# EAGLE library part TERMINAL-BLOCK-3.5MM-9-PIN (library Rembrandt Electronics - Terminal Block 3-5mm v1-0)
Terminal Block 3.5mm Pitch: 3,5 mm Number of pins: 9 Created by Rembrandt Electronics www.rembrandtelectronics.com
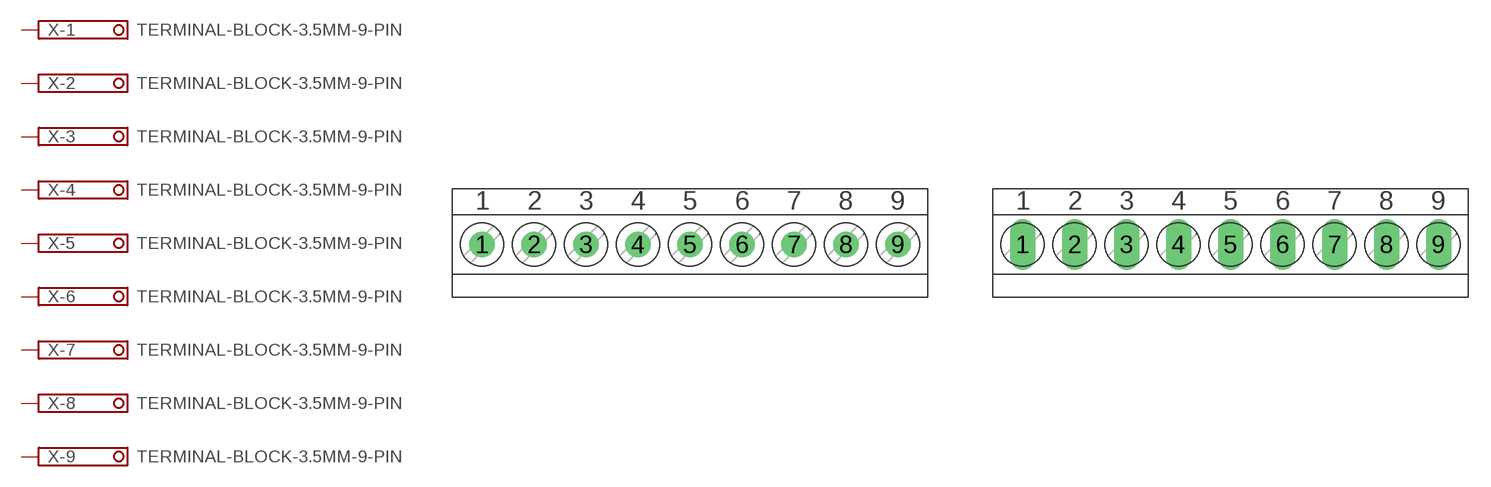
[diagram p3: symbol with the pads of TERMINAL-BLOCK-9-PIN-3.5MM-ROUND-PAD; footprints TERMINAL-BLOCK-9-PIN-3.5MM-ROUND-PAD, TERMINAL-BLOCK-9-PIN-3.5MM-LONG-PAD]

Designator prefix X; gates -1=TERMINAL-BLOCK-PIN-3.5MM -2=TERMINAL-BLOCK-PIN-3.5MM -3=TERMINAL-BLOCK-PIN-3.5MM -4=TERMINAL-BLOCK-PIN-3.5MM -5=TERMINAL-BLOCK-PIN-3.5MM -6=TERMINAL-BLOCK-PIN-3.5MM -7=TERMINAL-BLOCK-PIN-3.5MM -8=TERMINAL-BLOCK-PIN-3.5MM -9=TERMINAL-BLOCK-PIN-3.5MM

## TERMINAL-BLOCK-3.5MM-9-PIN-ROUND-PAD  [TERMINAL-BLOCK-9-PIN-3.5MM-ROUND-PAD]
1  -1:K  pas
2  -2:K  pas
3  -3:K  pas
4  -4:K  pas
5  -5:K  pas
6  -6:K  pas
7  -7:K  pas
8  -8:K  pas
9  -9:K  pas

## TERMINAL-BLOCK-3.5MM-9-PIN-LONG-PAD  [TERMINAL-BLOCK-9-PIN-3.5MM-LONG-PAD]
Pads as for TERMINAL-BLOCK-9-PIN-3.5MM-ROUND-PAD

## Footprint TERMINAL-BLOCK-9-PIN-3.5MM-ROUND-PAD (pad centres in mm)
Terminal Block 3.5mm Round pads (Package) Pitch: 3,5 mm Number of pins: 9 Created by Rembrandt Electronics www.rembrandtelectronics.com
drill 1.1 pad 1.7: 1 -13.973,-0.1; 2 -10.473,-0.1; 3 -6.973,-0.1; 4 -3.473,-0.1; 5 0.028,-0.1; 6 3.527,-0.1; 7 7.027,-0.1; 8 10.527,-0.1; 9 14.027,-0.1

## Footprint TERMINAL-BLOCK-9-PIN-3.5MM-LONG-PAD (pad centres in mm)
Terminal Block 3.5mm Long pads (Package) Pitch: 3,5 mm Number of pins: 9 Created by Rembrandt Electronics www.rembrandtelectronics.com
drill 1.1 pad 1.7 long: 1 -13.973,-0.1; 2 -10.473,-0.1; 3 -6.973,-0.1; 4 -3.473,-0.1; 5 0.028,-0.1; 6 3.527,-0.1; 7 7.027,-0.1; 8 10.527,-0.1; 9 14.027,-0.1